# Altium footprint library BrauV2_Misc.PcbLib: 7 footprints
Each footprint in its own frame and in the unit in brackets; x right, y up, seen from the top. Pads: shape width x height; smd on the part's side, far side on the other; paste and mask are expansions set on the pad; w line width, h text height; cw(c..) or ccw(c..) is an arc to the next point about the centre after c.
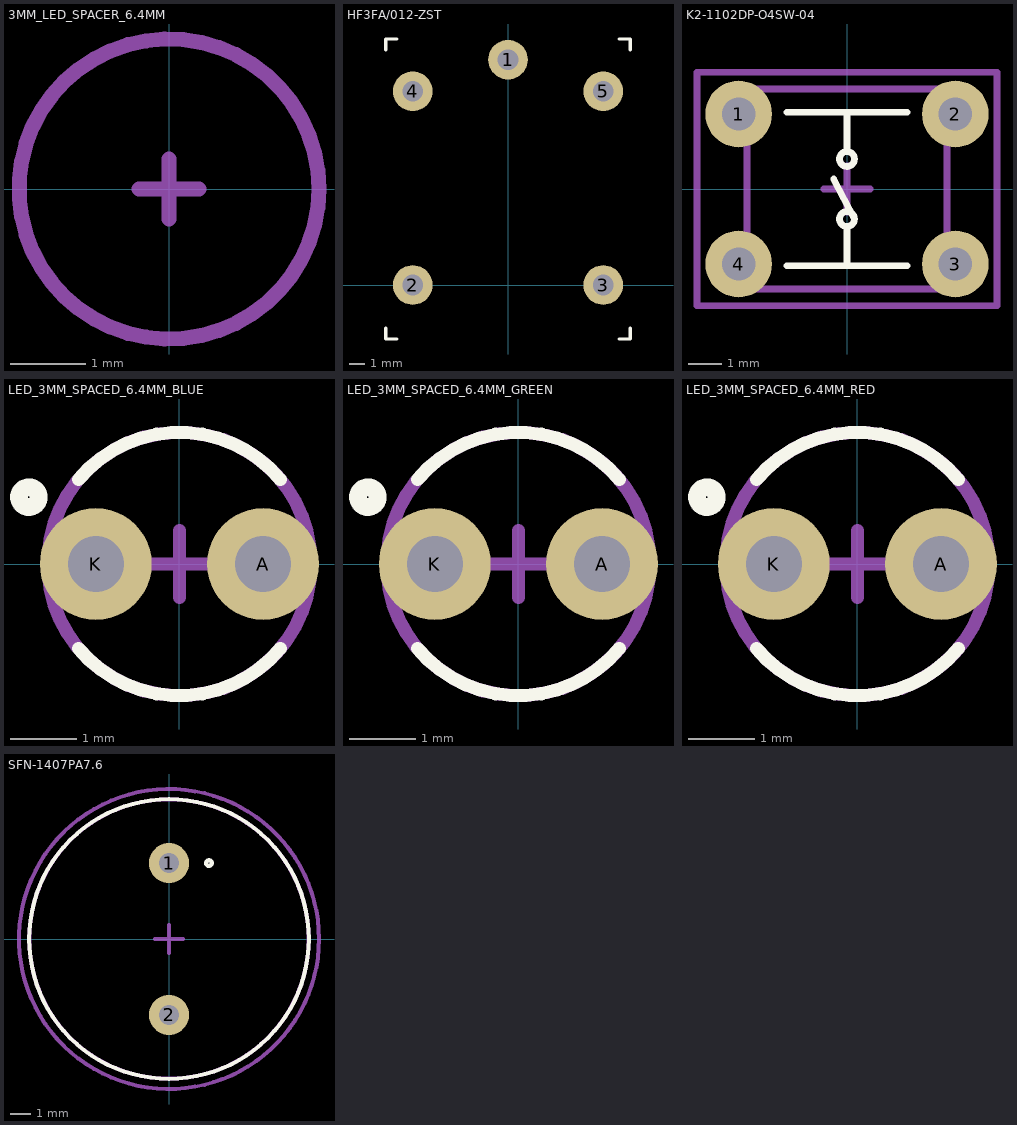
[diagram p0: the footprints below, top view; thin cyan lines are the x and y axes]

## 3MM_LED_SPACER_6.4MM [mm]
Top Assembly:
  circle w0.2: c0,0 r2
Top Courtyard (Mech15):
  lines w0.2: -0.4,0 0.4,0 ; 0,-0.4 0,0.4
3D body: height 6.4, standoff 0, extent -2,-2 2,2

## HF3FA/012-ZST [mm] "SPDT Relay"
pads (5):
  round 2.5 hole 1.3: 1(0,14.2) 2(-6,0) 3(6,0) 4(-6,12.2) 5(6,12.2)
Top Overlay:
  lines w0.2: -7.7,-2.7 -7.7,-3.4 -7,-3.4 ; -7.7,14.8 -7.7,15.5 -7,15.5 ; 7,-3.4 7.7,-3.4 7.7,-2.7 ; 7,15.5 7.7,15.5 7.7,14.8
3D body "Doat-5volt Relay v1.step": height 15.5, standoff -4.5, extent -7.75,-3.5 7.75,15.5

## K2-1102DP-O4SW-04 [mm]
pads (4):
  round 2 hole 1: 1(-3.25,2.25) 2(3.25,2.25) 3(3.25,-2.25) 4(-3.25,-2.25)
Top Overlay:
  circle w0.2: c0,-0.9 r0.224
  circle w0.2: c0,0.9 r0.224
  lines w0.2: -1.8,-2.3 1.8,-2.3 ; -1.8,2.3 1.8,2.3 ; -0.4,0.3 0.224,-0.9 ; 0,-2.3 0,-1.2 ; 0,1.2 0,2.3
Top Assembly:
  lines w0.2: -3,-3 -3,3 3,3 3,-3 -3,-3
Top Courtyard (Mech15):
  lines w0.2: -0.7,0 0.7,0 ; 0,-0.7 0,0.7 ; -4.5,-3.5 4.5,-3.5 4.5,3.5 -4.5,3.5 -4.5,-3.5
3D body: height 11, standoff 0, extent -1.7,-1.697 1.7,1.697
3D body: height 3.5, standoff 0, extent -3,-3 3,3

## LED_3MM_SPACED_6.4MM_BLUE [mm]
pads (2):
  round 1.7 hole 0.85: A(1.27,0) K(-1.27,0)
Top Overlay:
  circle w0.27: c-2.286,1.016 r0.15
  lines w0.2: -1.532,-1.286 ccw(c0,0) 1.532,-1.286 ; -1.532,1.286 cw(c0,0) 1.532,1.286
Top Assembly:
  circle w0.2: c0,0 r2
Top Courtyard (Mech15):
  lines w0.2: -0.508,0 0.508,0 ; 0,-0.508 0,0.508
3D body "LED D3 - Blue.step": height 11.7, standoff -20, extent -1.62,-1.945 1.948,1.945

## LED_3MM_SPACED_6.4MM_GREEN [mm]
pads (2):
  round 1.7 hole 0.85: A(1.27,0) K(-1.27,0)
Top Overlay:
  circle w0.27: c-2.286,1.016 r0.15
  lines w0.2: -1.532,-1.286 ccw(c0,0) 1.532,-1.286 ; -1.532,1.286 cw(c0,0) 1.532,1.286
Top Assembly:
  circle w0.2: c0,0 r2
Top Courtyard (Mech15):
  lines w0.2: -0.508,0 0.508,0 ; 0,-0.508 0,0.508
3D body "LED D3 - Green.step": height 11.7, standoff -20, extent -1.62,-1.945 1.948,1.945

## LED_3MM_SPACED_6.4MM_RED [mm]
pads (2):
  round 1.7 hole 0.85: A(1.27,0) K(-1.27,0)
Top Overlay:
  circle w0.27: c-2.286,1.016 r0.15
  lines w0.2: -1.532,-1.286 ccw(c0,0) 1.532,-1.286 ; -1.532,1.286 cw(c0,0) 1.532,1.286
Top Assembly:
  circle w0.2: c0,0 r2
Top Courtyard (Mech15):
  lines w0.2: -0.508,0 0.508,0 ; 0,-0.508 0,0.508
3D body "LED D3 - Red.step": height 11.7, standoff -20, extent -1.62,-1.945 1.948,1.945

## SFN-1407PA7.6 [mm]
pads (2):
  round 2 hole 1: 1(0,3.8) 2(0,-3.8)
Top Overlay:
  circle w0.2: c2,3.8 r0.141
  circle w0.2: c0,0 r7
Top Assembly:
  circle w0.2: c0,0 r6.992
Top Courtyard (Mech15):
  circle w0.2: c0,0 r7.506
  lines w0.2: -0.7,0 0.7,0 ; 0,-0.7 0,0.7
3D body: height 7, standoff 0, extent -7,-7 7,7